# Altium footprint library Solar_PcbLib1.PcbLib: 17 footprints (part 1 of 2)
Each footprint in its own frame and in the unit in brackets; x right, y up, seen from the top. Pads: shape width x height; smd on the part's side, far side on the other; paste and mask are expansions set on the pad; w line width, h text height; cw(c..) or ccw(c..) is an arc to the next point about the centre after c.
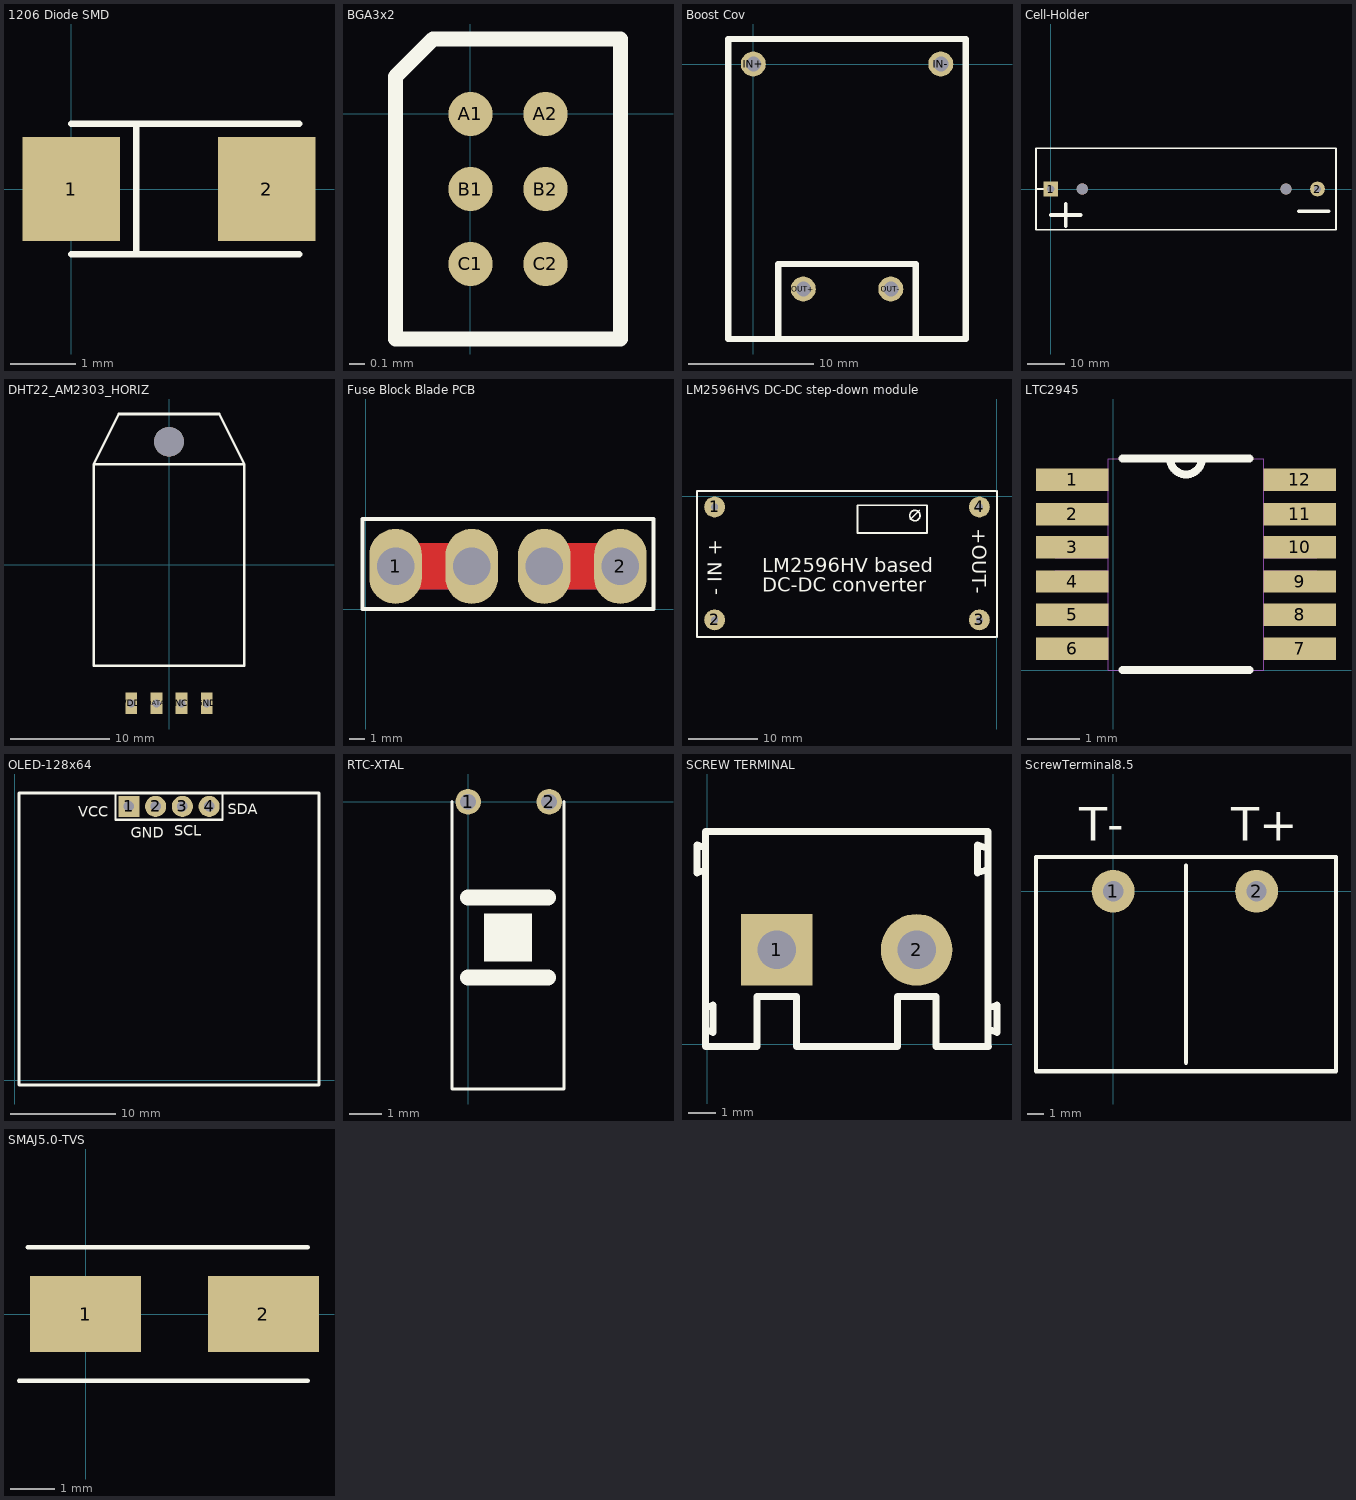
[diagram p0: the footprints below, top view; thin cyan lines are the x and y axes]

## 1206 Diode SMD [mm] "CD1206-S01575CT-ND"
pads (2):
  rect 1.5x1.6 smd: 1(0,0) 2(3,0)
Top Overlay:
  lines w0.1: 0,-1 3.5,-1 ; 0,1 3.5,1 ; 1,-1 1,1

## ADP119 [mm] "High-Side or Low-Side Load Switch"

## BGA3x2 [mm]
pads (6):
  round 0.295 smd: A1(0,0) A2(0.5,0) B1(0,-0.5) B2(0.5,-0.5) C1(0,-1) C2(0.5,-1)
Top Overlay:
  lines w0.1: -0.5,-1.5 1,-1.5 1,0.5 -0.25,0.5 -0.5,0.25 -0.5,-1.5

## Boost Cov [mm] "3.7 to 5V"
pads (4):
  round 2 hole 1.2: IN+(0,0) IN-(15,0) OUT+(4,-18) OUT-(11,-18)
Top Overlay:
  lines w0.5: 2,-22 2,-19 2,-16 13,-16 13,-20 13,-22 ; -2,-22 -2,2 17,2 17,-22 -2,-22

## Cell-Holder [mm] "18056"
pads (4):
  rect 4x4 hole 2: 1(0,0)
  round 4 hole 2: 2(72,0)
  round 3 hole 3: " "(8.5,0) " "(63.5,0)
Top Overlay:
  lines w0.5: 0,0 -4,0 ; -4,0 -4,11 77,11 77,0 77,-11 -4,-11 -4,0
  lines w1: 0,-7 8,-7 ; 4,-10 4,-4 ; 67,-6 75,-6

## DHT22_AM2303_HORIZ [mil]
pads (5):
  rect 47.2x85 hole 31.4: DATA(-50,-550) GND(150,-550) NC(50,-550) VDD(-150,-550)
  round 118.11 hole 118.11 unplated: ""(0,490)
Top Overlay:
  lines w10: -300,400 -200,600 200,600 300,400 ; -300,400 -300,-400 0,-400 300,-400 300,400 ; -300,400 300,400

## Fuse Block Blade PCB [mm] "BK-6010"
pads (4):
  oval 3.5x5 hole 2.5: 1(1.972,2.842) 2(16.958,2.842) ""(7.052,2.842) ""(11.878,2.842)
Top Layer:
  region: 3.345,4.372 5.655,4.366 5.655,1.318 3.369,1.318
  region: 12.894,4.366 15.444,4.366 15.444,1.308 12.894,1.308
Bottom Layer:
  region: 3.345,4.372 5.655,4.366 5.655,1.318 3.369,1.318
  region: 13.035,4.372 15.585,4.372 15.585,1.312 13.035,1.312
Top Overlay:
  lines w0.254: -0.225,0 -0.225,6 19.155,6 19.155,0 -0.225,0

## LM2596 [mm] "Adjustable Buck Converter"

## LM2596HVS DC-DC step-down module [mm]
pads (4):
  round 3 hole 0.914 slot 0.96 at 0 deg: 1(-40.64,-1.524) 2(-40.64,-17.78) 3(-2.54,-17.78) 4(-2.54,-1.524)
Top Overlay:
  circle w0.254: c-11.816,-2.766 r0.749
  lines w0.254: -12.446,-3.302 -11.176,-2.032 ; -0.18,-20.238 -43.18,-20.238 -43.18,-17.78 -43.18,0.762 -0.18,0.762 ; 0,-20.238 0,-10.414 0,0.762 ; -20.066,-5.266 -20.066,-1.266 -10.066,-1.266 -10.066,-5.266 -20.066,-5.266
  text "LM2596HV based" at -33.782,-10.922 h2.03
  text "DC-DC converter" at -33.782,-13.716 h2.03
  text "- IN +" at -39.624,-14.224 h2.03
  text "+OUT-" at -3.556,-4.572 h2.03

## LTC2945 [mil] "12MSOP"
pads (12):
  rect 55x17 smd: 1(-31,144) 2(-31,118) 3(-31,93) 4(-31,67) 5(-31,42) 6(-31,16) 7(141,16) 8(141,42) 9(141,67) 10(141,93) 11(141,118) 12(141,144)
Top Overlay:
  lines w6: 7,0 103,0 ; 7,160 43,160 ; 103,160 67,160 ; 43,160 ccw(c55,160) 67,160 ; 43,160 67,160
Mechanical 16:
  lines w0: 43,160 ccw(c55,160) 67,160 ; 43,160 67,160 ; 43,160 -4,160 -4,0 114,0 114,160 67,160 ; -44,9 -44,23 -4,23 -4,9 -44,9 ; -44,34 -44,49 -4,49 -4,34 -44,34 ; -44,60 -44,75 -4,75 -4,60 -44,60 ; -44,85 -44,100 -4,100 -4,85 -44,85 ; -44,111 -44,126 -4,126 -4,111 -44,111 ; -44,137 -44,151 -4,151 -4,137 -44,137 ; 114,9 114,23 154,23 154,9 114,9 ; 114,34 114,49 154,49 154,34 114,34 ; 114,60 114,75 154,75 154,60 114,60 ; 114,85 114,100 154,100 154,85 114,85 ; 114,111 114,126 154,126 154,111 114,111 ; 114,137 114,151 154,151 154,137 114,137

## OLED-128x64 [mm] "SSD1306 OLED 128x64 I2C"
pads (4):
  rect 2x2 hole 1: 1(10.806,25.985)
  round 2 hole 1: 2(13.346,25.985) 3(15.886,25.985) 4(18.426,25.985)
Top Overlay:
  lines w0.201: 9.536,24.715 9.536,27.255 19.696,27.255 19.696,24.715 9.536,24.715
  lines w0.254: 9.536,27.255 9.028,27.255 0.392,27.255 ; 19.696,27.255 28.332,27.255 28.84,27.255 ; 0.392,27.255 28.84,27.255 ; 0.392,27.255 0.392,-0.431 28.84,-0.431 28.84,27.255
  text "SCL" at 15.124,23.199 h1
  text "SDA" at 20.204,25.231 h1
  text "VCC" at 6,25 h1
  text "GND" at 11,23 h1

## PCBComponent_1 [mm]

## RTC-XTAL [mm] "RTC Crystal 32.768KHz"
pads (2):
  round 0.8 hole 0.5: 1(0,0) 2(2.54,0)
Top Overlay:
  rectangle: 0.5,-5 2,-3.5
  lines w0.1: -0.5,0 -0.5,-9 3,-9 3,0
  lines w0.5: 0,-5.5 2.5,-5.5 ; 0,-3 2.5,-3

## SCREW TERMINAL [mm] "PG Connector"
pads (2):
  rect 2.601x2.601 hole 1.402: 1(2.521,3.424)
  round 2.601 hole 1.402: 2(7.601,3.424)
Top Overlay:
  lines w0.254: -0.07,0.529 0.209,0.427 0.209,1.418 -0.07,1.316 ; 10.115,6.32 9.81,6.218 9.81,7.234 10.115,7.133 ; 10.191,-0.081 10.191,7.717 -0.07,7.717 -0.07,7.133 ; 10.217,-0.081 8.312,-0.081 8.312,1.722 6.915,1.722 6.915,-0.081 3.232,-0.081 3.232,1.722 1.809,1.722 1.809,-0.081 -0.07,-0.081 -0.07,6.32 ; 10.217,0.529 10.522,0.427 10.522,1.418 10.217,1.316 ; -0.07,6.32 -0.07,7.133 ; -0.07,6.32 -0.375,6.218 -0.375,7.234 -0.07,7.133

## ScrewTerminal8.5 [mm] "KF8500 Greeen Screw Terminal for Thermocouple"
pads (2):
  round 2.54 hole 1.2: 1(0,0) 2(8.5,0)
Top Overlay:
  lines w0.254: 3.048,2.032 -4.572,2.032 ; 4.318,-10.16 4.318,1.524 ; -4.572,2.032 13.208,2.032 13.208,-10.668 -4.572,-10.668 -4.572,2.032
  text "T-" at -2,3 h2
  text "T+" at 7,3 h2

## SMAJ5.0-TVS [mm] "400W SURFACE MOUNT TRANSIENT VOLTAGE SUPPRESSOR"
pads (2):
  rect 2.5x1.7 smd: 1(0,0) 2(4,0)
Top Overlay:
  lines w0.1: -1.5,-1.5 5,-1.5 ; -1.3,1.5 5,1.5